# Altium schematic symbol library Cap-Polarized.Schlib: 1 symbol
Pins are listed as number, name and electrical type; pins without a type are passive.

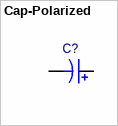
[diagram p0: symbol Cap-Polarized]

## Cap-Polarized
designator C?
Capacitor - polarized
signal-integrity model Cap Pol
pins: 1, 2
1 alternate drawing of the same symbol